# Altium footprint library LARS_409_USB.PCBLIB: 9 footprints
Each footprint in its own frame and in the unit in brackets; x right, y up, seen from the top. Pads: shape width x height; smd on the part's side, far side on the other; paste and mask are expansions set on the pad; w line width, h text height; cw(c..) or ccw(c..) is an arc to the next point about the centre after c.
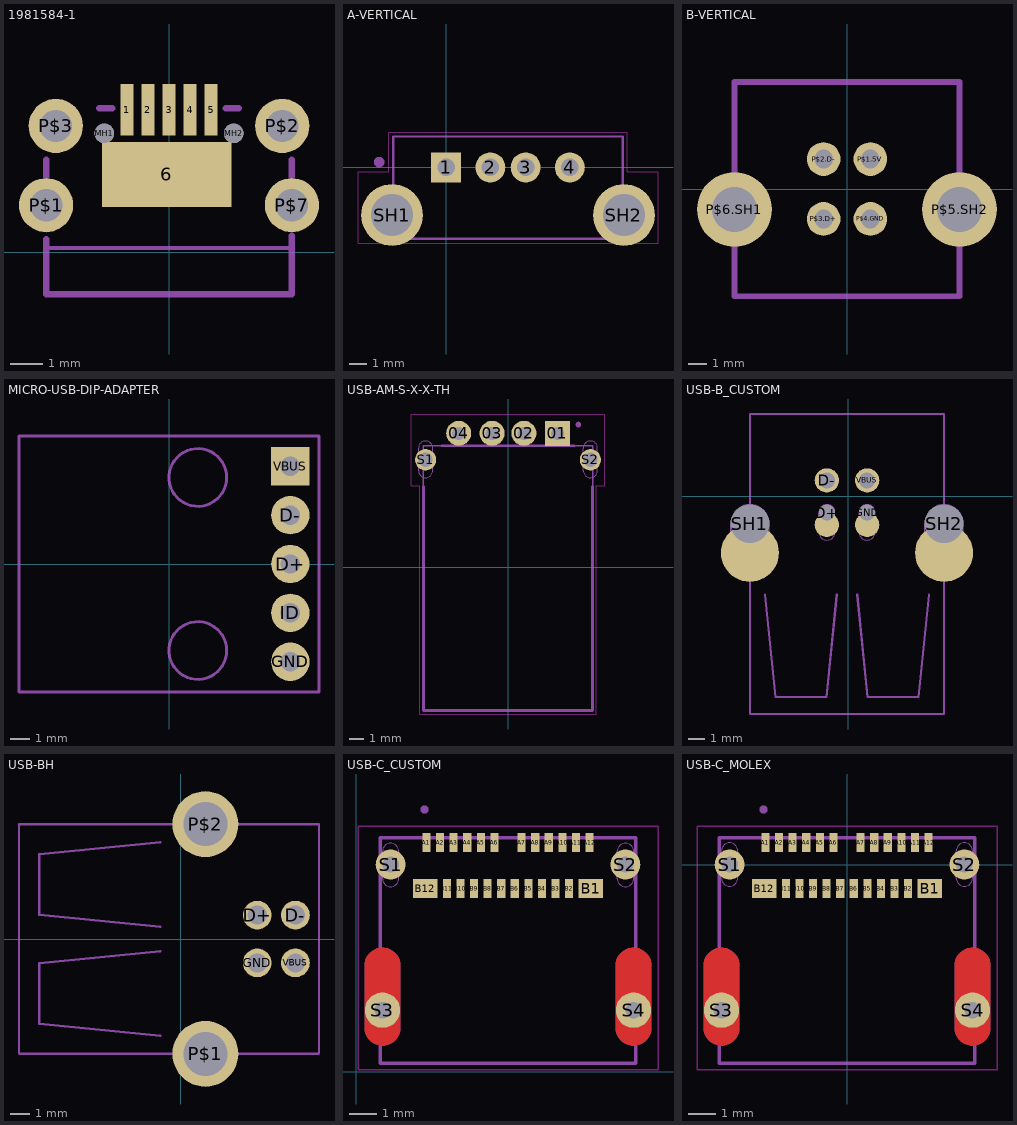
[diagram p0: the footprints below, top view; thin cyan lines are the x and y axes]

## 1981584-1 [mm]
pads (12):
  rect 0.4x1.6 smd: 1(-1.3,4.4) 2(-0.65,4.4) 3(0,4.4) 4(0.65,4.4) 5(1.3,4.4)
  rect 4x2 smd paste+0: 6(-0.073,2.4)
  round 0.6 hole 0.6 unplated: MH1(-2,3.67) MH2(2,3.67)
  round 1.676 hole 1: P$1(-3.8,1.45) P$2(3.5,3.9) P$3(-3.5,3.9) P$7(3.8,1.45)
Top Paste:
  circle w0: c-1,2.1 r0.5
  circle w0: c-1,1.1 r0.5
  circle w0: c1,2.1 r0.5
  circle w0: c1,1.1 r0.5
  circle w0: c0,1.1 r0.5
  circle w0: c0,2.1 r0.5
  circle w0: c-3.5,3.9 r0.826
  circle w0: c-3.8,1.45 r0.826
  circle w0: c3.8,1.45 r0.826
  circle w0: c3.5,3.9 r0.826
tValues:
  lines w0.203: -3.8,2.35 -3.8,2.85 ; -2.15,4.45 -1.75,4.45 ; 1.75,4.45 2.15,4.45 ; 3.8,2.35 3.8,2.85
tPlace:
  lines w0.127: -3.8,0.125 3.7,0.125
  lines w0.2: -3.8,0.4 -3.8,-1.3 3.8,-1.3 3.8,0.5
3D body "usb.STEP": height 2.7, standoff -0.22, extent -3.989,-1.037 3.985,4.389

## A-VERTICAL [mm]
pads (6):
  rect 1.7x1.7 / inner round 1.571 / far side rect 1.7x1.7 hole 1: 1(0,0)
  round 1.7 hole 1: 2(2.5,0) 3(4.5,0) 4(7,0)
  round 3.5 hole 2.4: SH1(-3.07,-2.7) SH2(10.07,-2.7)
Top keep-out:
  lines w0.05: -5,-4.3 12,-4.3 12,-0.25 10.25,-0.25 10.25,2 -3.25,2 -3.25,-0.25 -5,-0.25 -5,-4.3
tDocu:
  lines w0.127: -3,-4.05 10,-4.05 10,1.75 -3,1.75 -3,-4.05
tPlace:
  circle w0.3: c-3.8,0.3 r0.15
  lines w0.127: -3,-4.05 10,-4.05 ; -3,-0.35 -3,1.75 10,1.75 10,-0.35

## B-VERTICAL [mm]
pads (6):
  round 1.8 hole 1: P$1.5V(1.25,1.6) P$2.D-(-1.25,1.6) P$3.D+(-1.25,-1.6) P$4.GND(1.25,-1.6)
  round 4 hole 2.4: P$5.SH2(6.02,-1.095) P$6.SH1(-6.02,-1.095)
tDocu:
  lines w0.305: -6.02,-5.73 6.02,-5.73 6.02,5.73 -6.02,5.73 -6.02,-5.73
tPlace:
  lines w0.305: -6.02,-4.15 -6.02,-5.73 6.02,-5.73 6.02,-4.15 ; -6.02,2.01 -6.02,5.72 6.02,5.72 6.02,2.01

## MICRO-USB-DIP-ADAPTER [mm]
pads (5):
  round 2 hole 1: D+(6.31,0) D-(6.31,2.54) GND(6.31,-5.08) ID(6.31,-2.54)
  rect 2x2 / inner round 1.848 / far side rect 2x2 hole 1: VBUS(6.31,5.08)
tPlace:
  circle w0.152: c1.5,-4.5 r1.5
  circle w0.152: c1.5,4.5 r1.5
  lines w0.152: -7.8,-6.65 7.8,-6.65 7.8,6.65 -7.8,6.65 -7.8,-6.65

## USB-AM-S-X-X-TH [mil]
pads (6):
  rect 70x70 / inner round 64.67 / far side rect 70x70 hole 36.22: 01(137.8,374.02)
  round 70 hole 36.22: 02(44.29,374.02) 03(-44.29,374.02) 04(-137.8,374.02)
  round 59.37 hole 39.37: S1(-230.32,300) S2(230.32,300)
Top keep-out:
  lines w1.97: -269.88,226.77 -246.06,226.77 -246.06,-410.63 246.06,-410.63 246.06,226.77 269.88,226.77 269.88,427.95 -269.88,427.95 -269.88,226.77
Milling:
  lines w0: -250,269.69 ccw(c-230.31,269.69) -230.32,250 ccw(c-230.32,269.69) -210.63,269.69 -210.63,332.68 ccw(c-230.31,332.68) -230.32,352.36 ccw(c-230.32,332.68) -250,332.68 -250,269.69 ; 210.63,269.69 ccw(c230.32,269.69) 230.32,250 ccw(c230.31,269.69) 250,269.69 250,332.68 ccw(c230.32,332.68) 230.32,352.36 ccw(c230.31,332.68) 210.63,332.68 210.63,269.69
tDocu:
  circle w7.87: c196.85,398.43 r3.94
  lines w3.94: -236.22,-400.79 236.22,-400.79 236.22,339.37 -236.22,339.37 -236.22,-400.79
tPlace:
  circle w7.87: c196.85,398.43 r3.94
  lines w7.87: -236.22,225.2 -236.22,-400.79 236.22,-400.79 236.22,225.2 ; -185.04,339.37 185.04,339.37

## USB-B_CUSTOM [mm]
pads (6):
  round 1.508 hole 1 copper offset 0,-0.754: D+(-1.325,-1.005) GND(1.175,-1.005)
  round 1.508 hole 1: D-(-1.325,0.995) VBUS(1.175,0.995)
  round 3.6 hole 2.4 copper offset 0,-1.8: SH1(-6.095,-1.7) SH2(5.945,-1.7)
Milling:
  lines w0: -1.328,-0.505 -1.323,-0.505 ; 1.17,-0.505 1.175,-0.505 ; -7.295,-3.77 ccw(c-6.115,-3.745) -6.09,-4.925 ccw(c-6.09,-3.725) -4.89,-3.725 -4.89,-1.71 ccw(c-6.1,-1.71) -6.1,-0.5 ccw(c-6.1,-1.695) -7.295,-1.695 -7.295,-3.77 ; -1.823,-2.218 ccw(c-1.338,-2.218) -1.338,-2.703 -1.326,-2.703 ccw(c-1.326,-2.199) -0.822,-2.199 -0.822,-1 ccw(c-1.317,-1) -1.317,-0.505 -1.327,-0.505 ccw(c-1.327,-1.001) -1.823,-1.001 -1.823,-2.218 ; 0.675,-2.218 ccw(c1.16,-2.218) 1.16,-2.703 1.172,-2.703 ccw(c1.172,-2.199) 1.676,-2.199 1.676,-1 ccw(c1.181,-1) 1.181,-0.505 1.171,-0.505 ccw(c1.171,-1.001) 0.675,-1.001 0.675,-2.218 ; 4.743,-3.767 ccw(c5.923,-3.742) 5.948,-4.922 ccw(c5.948,-3.722) 7.148,-3.722 7.148,-1.707 ccw(c5.938,-1.707) 5.938,-0.497 ccw(c5.938,-1.692) 4.743,-1.692 4.743,-3.767
tPlace:
  lines w0.127: -6.095,-13.471 -6.095,2.226 ; -6.095,-6.335 -6.095,-4.755 ; -6.095,1.405 -6.095,5.115 5.945,5.115 5.945,1.405 ; -6.089,-13.491 5.925,-13.491 ; -5.155,-6.085 -4.52,-12.435 -1.345,-12.435 -0.71,-6.085 ; 0.56,-6.085 1.195,-12.435 4.37,-12.435 5.005,-6.085 ; 5.945,-13.445 5.945,2.201 ; 5.945,-6.335 5.945,-4.755

## USB-BH [mm]
pads (6):
  round 1.508 hole 1: D+(4,1.25) D-(6,1.25) GND(4,-1.25) VBUS(6,-1.25)
  round 3.45 hole 2.3: P$1(1.282,-6.02) P$2(1.282,6.02)
tPlace:
  lines w0.127: -8.486,-6 -8.486,6.014 ; -8.466,6.02 7.231,6.02 ; -8.441,-6.02 7.206,-6.02 ; -1.08,-5.08 -7.43,-4.445 -7.43,-1.27 -1.08,-0.635 ; -1.08,0.635 -7.43,1.27 -7.43,4.445 -1.08,5.08 ; 7.237,-6 7.237,6.014

## USB-C_CUSTOM [mm]
pads (28):
  rect 0.3x0.7 smd: A1(2.588,8.43) A2(3.088,8.43) A3(3.588,8.43) A4(4.088,8.43) A5(4.588,8.43) A6(5.088,8.43) A7(6.088,8.43) A8(6.588,8.43) A9(7.088,8.43) A10(7.588,8.43) A11(8.088,8.43) A12(8.588,8.43) B2(7.838,6.73) B3(7.338,6.73) B4(6.838,6.73) B5(6.338,6.73) B6(5.838,6.73) B7(5.338,6.73) B8(4.838,6.73) B9(4.338,6.73) B10(3.838,6.73) B11(3.338,6.73)
  rect 0.9x0.7 smd: B1(8.638,6.73) B12(2.538,6.73)
  round 1.1 hole 0.6: S1(1.268,7.62) S2(9.908,7.62)
  round 1.3 hole 0.6: S3(0.968,2.26) S4(10.208,2.26)
Top:
  region: 0.313,1.61 0.313,3.91 0.313,3.975 0.338,4.101 0.388,4.22 0.459,4.328 0.55,4.419 0.658,4.49 0.777,4.54 0.903,4.565 0.968,4.565 1.032,4.565 1.159,4.54 1.278,4.49 1.385,4.419 1.477,4.328 1.548,4.22 1.598,4.101 1.623,3.975 1.623,3.91 1.623,1.61 1.623,1.546 1.598,1.419 1.548,1.3 1.477,1.193 1.385,1.101 1.278,1.03 1.159,0.98 1.032,0.955 0.968,0.955 0.903,0.955 0.777,0.98 0.658,1.03 0.55,1.101 0.459,1.193 0.388,1.3 0.338,1.419 0.313,1.546
  region: 9.553,1.61 9.553,3.91 9.553,3.975 9.578,4.101 9.628,4.22 9.699,4.328 9.791,4.419 9.898,4.49 10.017,4.54 10.143,4.565 10.208,4.565 10.273,4.565 10.399,4.54 10.518,4.49 10.626,4.419 10.717,4.328 10.788,4.22 10.838,4.101 10.863,3.975 10.863,3.91 10.863,1.61 10.863,1.546 10.838,1.419 10.788,1.3 10.717,1.193 10.626,1.101 10.518,1.03 10.399,0.98 10.273,0.955 10.208,0.955 10.143,0.955 10.017,0.98 9.898,1.03 9.791,1.101 9.699,1.193 9.628,1.3 9.578,1.419 9.553,1.546
Top keep-out:
  lines w0.05: 0.068,0.06 0.068,9.03 11.108,9.03 11.108,0.06 0.068,0.06
Bottom:
  region: 0.313,1.61 0.313,3.91 0.313,3.975 0.338,4.101 0.388,4.22 0.459,4.328 0.55,4.419 0.658,4.49 0.777,4.54 0.903,4.565 0.968,4.565 1.032,4.565 1.159,4.54 1.278,4.49 1.385,4.419 1.477,4.328 1.548,4.22 1.598,4.101 1.623,3.975 1.623,3.91 1.623,1.61 1.623,1.546 1.598,1.419 1.548,1.3 1.477,1.193 1.385,1.101 1.278,1.03 1.159,0.98 1.032,0.955 0.968,0.955 0.903,0.955 0.777,0.98 0.658,1.03 0.55,1.101 0.459,1.193 0.388,1.3 0.338,1.419 0.313,1.546
  region: 9.553,1.61 9.553,3.91 9.553,3.975 9.578,4.101 9.628,4.22 9.699,4.328 9.791,4.419 9.898,4.49 10.017,4.54 10.143,4.565 10.208,4.565 10.273,4.565 10.399,4.54 10.518,4.49 10.626,4.419 10.717,4.328 10.788,4.22 10.838,4.101 10.863,3.975 10.863,3.91 10.863,1.61 10.863,1.546 10.838,1.419 10.788,1.3 10.717,1.193 10.626,1.101 10.518,1.03 10.399,0.98 10.273,0.955 10.208,0.955 10.143,0.955 10.017,0.98 9.898,1.03 9.791,1.101 9.699,1.193 9.628,1.3 9.578,1.419 9.553,1.546
Milling:
  lines w0: 0.668,1.51 ccw(c0.968,1.51) 0.968,1.21 ccw(c0.968,1.51) 1.268,1.51 1.268,3.01 ccw(c0.968,3.01) 0.968,3.31 ccw(c0.968,3.01) 0.668,3.01 0.668,1.51 ; 0.97,7.1 ccw(c1.27,7.1) 1.27,6.8 ccw(c1.27,7.1) 1.57,7.1 1.57,8.1 ccw(c1.27,8.1) 1.27,8.4 ccw(c1.27,8.1) 0.97,8.1 0.97,7.1 ; 9.61,7.1 ccw(c9.91,7.1) 9.91,6.8 ccw(c9.91,7.1) 10.21,7.1 10.21,8.1 ccw(c9.91,8.1) 9.91,8.4 ccw(c9.91,8.1) 9.61,8.1 9.61,7.1 ; 9.91,1.49 ccw(c10.2,1.5) 10.21,1.21 ccw(c10.22,1.5) 10.51,1.49 10.51,2.99 ccw(c10.21,2.99) 10.21,3.29 ccw(c10.21,2.99) 9.91,2.99 9.91,1.49
tDocu:
  lines w0.127: 0.893,0.31 0.893,8.61 10.283,8.61 10.283,0.31 0.893,0.31
  text "B12" at -1.651,6.477 h0.94
  text "B1" at 11.43,6.477 h0.94
  text "A12" at 11.43,8.255 h0.94
  text "A1" at -1.143,8.255 h0.94
tPlace:
  circle w0.2: c2.518,9.65 r0.05
  lines w0.127: 0.893,5.12 0.893,6.16 ; 10.283,5.12 10.283,6.16
  text "B1" at 11.43,6.477 h0.94
  text "A12" at 11.43,8.255 h0.94
  text "B12" at -1.651,6.477 h0.94
  text "A1" at -1.143,8.255 h0.94

## USB-C_MOLEX [mm]
pads (28):
  rect 0.3x0.7 smd: A1(-3,0.81) A2(-2.5,0.81) A3(-2,0.81) A4(-1.5,0.81) A5(-1,0.81) A6(-0.5,0.81) A7(0.5,0.81) A8(1,0.81) A9(1.5,0.81) A10(2,0.81) A11(2.5,0.81) A12(3,0.81) B2(2.25,-0.89) B3(1.75,-0.89) B4(1.25,-0.89) B5(0.75,-0.89) B6(0.25,-0.89) B7(-0.25,-0.89) B8(-0.75,-0.89) B9(-1.25,-0.89) B10(-1.75,-0.89) B11(-2.25,-0.89)
  rect 0.9x0.7 smd: B1(3.05,-0.89) B12(-3.05,-0.89)
  round 1.1 hole 0.6: S1(-4.32,0) S2(4.32,0)
  round 1.3 hole 0.6: S3(-4.62,-5.36) S4(4.62,-5.36)
Top:
  region: -5.275,-6.01 -5.275,-3.71 -5.275,-3.645 -5.25,-3.519 -5.2,-3.4 -5.129,-3.292 -5.038,-3.201 -4.93,-3.13 -4.811,-3.08 -4.685,-3.055 -4.62,-3.055 -4.555,-3.055 -4.429,-3.08 -4.31,-3.13 -4.203,-3.201 -4.111,-3.292 -4.04,-3.4 -3.99,-3.519 -3.965,-3.645 -3.965,-3.71 -3.965,-6.01 -3.965,-6.074 -3.99,-6.201 -4.04,-6.32 -4.111,-6.427 -4.203,-6.519 -4.31,-6.59 -4.429,-6.64 -4.555,-6.665 -4.62,-6.665 -4.685,-6.665 -4.811,-6.64 -4.93,-6.59 -5.038,-6.519 -5.129,-6.427 -5.2,-6.32 -5.25,-6.201 -5.275,-6.074
  region: 3.965,-6.01 3.965,-3.71 3.965,-3.645 3.99,-3.519 4.04,-3.4 4.111,-3.292 4.203,-3.201 4.31,-3.13 4.429,-3.08 4.555,-3.055 4.62,-3.055 4.685,-3.055 4.811,-3.08 4.93,-3.13 5.038,-3.201 5.129,-3.292 5.2,-3.4 5.25,-3.519 5.275,-3.645 5.275,-3.71 5.275,-6.01 5.275,-6.074 5.25,-6.201 5.2,-6.32 5.129,-6.427 5.038,-6.519 4.93,-6.59 4.811,-6.64 4.685,-6.665 4.62,-6.665 4.555,-6.665 4.429,-6.64 4.31,-6.59 4.203,-6.519 4.111,-6.427 4.04,-6.32 3.99,-6.201 3.965,-6.074
Top keep-out:
  lines w0.05: -5.52,-7.56 -5.52,1.41 5.52,1.41 5.52,-7.56 -5.52,-7.56
Bottom:
  region: -5.275,-6.01 -5.275,-3.71 -5.275,-3.645 -5.25,-3.519 -5.2,-3.4 -5.129,-3.292 -5.038,-3.201 -4.93,-3.13 -4.811,-3.08 -4.685,-3.055 -4.62,-3.055 -4.555,-3.055 -4.429,-3.08 -4.31,-3.13 -4.203,-3.201 -4.111,-3.292 -4.04,-3.4 -3.99,-3.519 -3.965,-3.645 -3.965,-3.71 -3.965,-6.01 -3.965,-6.074 -3.99,-6.201 -4.04,-6.32 -4.111,-6.427 -4.203,-6.519 -4.31,-6.59 -4.429,-6.64 -4.555,-6.665 -4.62,-6.665 -4.685,-6.665 -4.811,-6.64 -4.93,-6.59 -5.038,-6.519 -5.129,-6.427 -5.2,-6.32 -5.25,-6.201 -5.275,-6.074
  region: 3.965,-6.01 3.965,-3.71 3.965,-3.645 3.99,-3.519 4.04,-3.4 4.111,-3.292 4.203,-3.201 4.31,-3.13 4.429,-3.08 4.555,-3.055 4.62,-3.055 4.685,-3.055 4.811,-3.08 4.93,-3.13 5.038,-3.201 5.129,-3.292 5.2,-3.4 5.25,-3.519 5.275,-3.645 5.275,-3.71 5.275,-6.01 5.275,-6.074 5.25,-6.201 5.2,-6.32 5.129,-6.427 5.038,-6.519 4.93,-6.59 4.811,-6.64 4.685,-6.665 4.62,-6.665 4.555,-6.665 4.429,-6.64 4.31,-6.59 4.203,-6.519 4.111,-6.427 4.04,-6.32 3.99,-6.201 3.965,-6.074
Top Solder:
  region: -4.62,-6.765 -4.694,-6.765 -4.84,-6.736 -4.978,-6.679 -5.101,-6.596 -5.206,-6.491 -5.289,-6.368 -5.346,-6.23 -5.375,-6.084 -5.375,-6.01 -5.375,-3.71 -5.375,-3.636 -5.346,-3.49 -5.289,-3.352 -5.206,-3.229 -5.101,-3.124 -4.978,-3.041 -4.84,-2.984 -4.694,-2.955 -4.62,-2.955 -4.546,-2.955 -4.4,-2.984 -4.262,-3.041 -4.139,-3.124 -4.034,-3.229 -3.951,-3.352 -3.894,-3.49 -3.865,-3.636 -3.865,-3.71 -3.865,-6.01 -3.865,-6.084 -3.894,-6.23 -3.951,-6.368 -4.034,-6.491 -4.139,-6.596 -4.262,-6.679 -4.4,-6.736 -4.546,-6.765
  region: 4.62,-6.765 4.546,-6.765 4.4,-6.736 4.262,-6.679 4.139,-6.596 4.034,-6.491 3.951,-6.368 3.894,-6.23 3.865,-6.084 3.865,-6.01 3.865,-3.71 3.865,-3.636 3.894,-3.49 3.951,-3.352 4.034,-3.229 4.139,-3.124 4.262,-3.041 4.4,-2.984 4.546,-2.955 4.62,-2.955 4.694,-2.955 4.84,-2.984 4.978,-3.041 5.101,-3.124 5.206,-3.229 5.289,-3.352 5.346,-3.49 5.375,-3.636 5.375,-3.71 5.375,-6.01 5.375,-6.084 5.346,-6.23 5.289,-6.368 5.206,-6.491 5.101,-6.596 4.978,-6.679 4.84,-6.736 4.694,-6.765
Bottom Solder:
  region: -4.62,-6.765 -4.694,-6.765 -4.84,-6.736 -4.978,-6.679 -5.101,-6.596 -5.206,-6.491 -5.289,-6.368 -5.346,-6.23 -5.375,-6.084 -5.375,-6.01 -5.375,-3.71 -5.375,-3.636 -5.346,-3.49 -5.289,-3.352 -5.206,-3.229 -5.101,-3.124 -4.978,-3.041 -4.84,-2.984 -4.694,-2.955 -4.62,-2.955 -4.546,-2.955 -4.4,-2.984 -4.262,-3.041 -4.139,-3.124 -4.034,-3.229 -3.951,-3.352 -3.894,-3.49 -3.865,-3.636 -3.865,-3.71 -3.865,-6.01 -3.865,-6.084 -3.894,-6.23 -3.951,-6.368 -4.034,-6.491 -4.139,-6.596 -4.262,-6.679 -4.4,-6.736 -4.546,-6.765
  region: 4.62,-6.765 4.546,-6.765 4.4,-6.736 4.262,-6.679 4.139,-6.596 4.034,-6.491 3.951,-6.368 3.894,-6.23 3.865,-6.084 3.865,-6.01 3.865,-3.71 3.865,-3.636 3.894,-3.49 3.951,-3.352 4.034,-3.229 4.139,-3.124 4.262,-3.041 4.4,-2.984 4.546,-2.955 4.62,-2.955 4.694,-2.955 4.84,-2.984 4.978,-3.041 5.101,-3.124 5.206,-3.229 5.289,-3.352 5.346,-3.49 5.375,-3.636 5.375,-3.71 5.375,-6.01 5.375,-6.084 5.346,-6.23 5.289,-6.368 5.206,-6.491 5.101,-6.596 4.978,-6.679 4.84,-6.736 4.694,-6.765
Milling:
  lines w0: -4.92,-6.11 ccw(c-4.62,-6.11) -4.62,-6.41 ; -4.92,-6.11 ccw(c-4.62,-6.11) -4.62,-6.41 ; -4.92,-6.11 -4.92,-4.61 ; -4.92,-4.61 cw(c-4.62,-4.61) -4.62,-4.31 ; -4.92,-4.61 cw(c-4.62,-4.61) -4.62,-4.31 ; -4.62,-6.41 ccw(c-4.62,-6.11) -4.32,-6.11 ; -4.62,-6.41 ccw(c-4.62,-6.11) -4.32,-6.11 ; -4.62,-4.31 cw(c-4.62,-4.61) -4.32,-4.61 ; -4.62,-4.31 cw(c-4.62,-4.61) -4.32,-4.61 ; -4.62,-0.5 ccw(c-4.32,-0.5) -4.32,-0.8 ; -4.62,-0.5 ccw(c-4.32,-0.5) -4.32,-0.8 ; -4.62,-0.5 ccw(c-4.32,-0.5) -4.32,-0.8 ; -4.62,-0.5 -4.62,0.5 ; -4.62,-0.5 -4.62,0.5 ; -4.62,0.5 cw(c-4.32,0.5) -4.32,0.8 ; -4.62,0.5 cw(c-4.32,0.5) -4.32,0.8 ; -4.62,0.5 cw(c-4.32,0.5) -4.32,0.8 ; -4.32,-6.11 -4.32,-4.61 ; -4.32,-0.8 ccw(c-4.32,-0.5) -4.02,-0.5 ; -4.32,-0.8 ccw(c-4.32,-0.5) -4.02,-0.5 ; -4.32,-0.8 ccw(c-4.32,-0.5) -4.02,-0.5 ; -4.32,0.8 cw(c-4.32,0.5) -4.02,0.5 ; -4.32,0.8 cw(c-4.32,0.5) -4.02,0.5 ; -4.32,0.8 cw(c-4.32,0.5) -4.02,0.5 ; -4.02,-0.5 -4.02,0.5 ; -4.02,-0.5 -4.02,0.5 ; -4.02,-0.5 -4.02,0.5 ; 4.02,-0.5 ccw(c4.32,-0.5) 4.32,-0.8 ccw(c4.32,-0.5) 4.62,-0.5 4.62,0.5 ccw(c4.32,0.5) 4.32,0.8 ccw(c4.32,0.5) 4.02,0.5 4.02,-0.5 ; 4.32,-6.11 ccw(c4.62,-6.11) 4.62,-6.41 ccw(c4.62,-6.11) 4.92,-6.11 4.92,-4.61 ccw(c4.62,-4.61) 4.62,-4.31 ccw(c4.62,-4.61) 4.32,-4.61 4.32,-6.11
tDocu:
  lines w0.127: -4.695,-7.31 -4.695,0.99 4.695,0.99 4.695,-7.31 -4.695,-7.31
  text "B12" at -7.239,-1.143 h0.94
  text "B1" at 5.842,-1.143 h0.94
  text "A12" at 5.842,0.635 h0.94
  text "A1" at -6.731,0.635 h0.94
tPlace:
  circle w0.2: c-3.07,2.03 r0.05
  lines w0.127: -4.695,-2.5 -4.695,-1.46 ; 4.695,-2.5 4.695,-1.46
  text "B1" at 5.842,-1.143 h0.94
  text "A12" at 5.842,0.635 h0.94
  text "B12" at -7.239,-1.143 h0.94
  text "A1" at -6.731,0.635 h0.94